# Altium footprint library Connectors.PcbLib: 5 footprints
Each footprint in its own frame and in the unit in brackets; x right, y up, seen from the top. Pads: shape width x height; smd on the part's side, far side on the other; paste and mask are expansions set on the pad; w line width, h text height; cw(c..) or ccw(c..) is an arc to the next point about the centre after c.
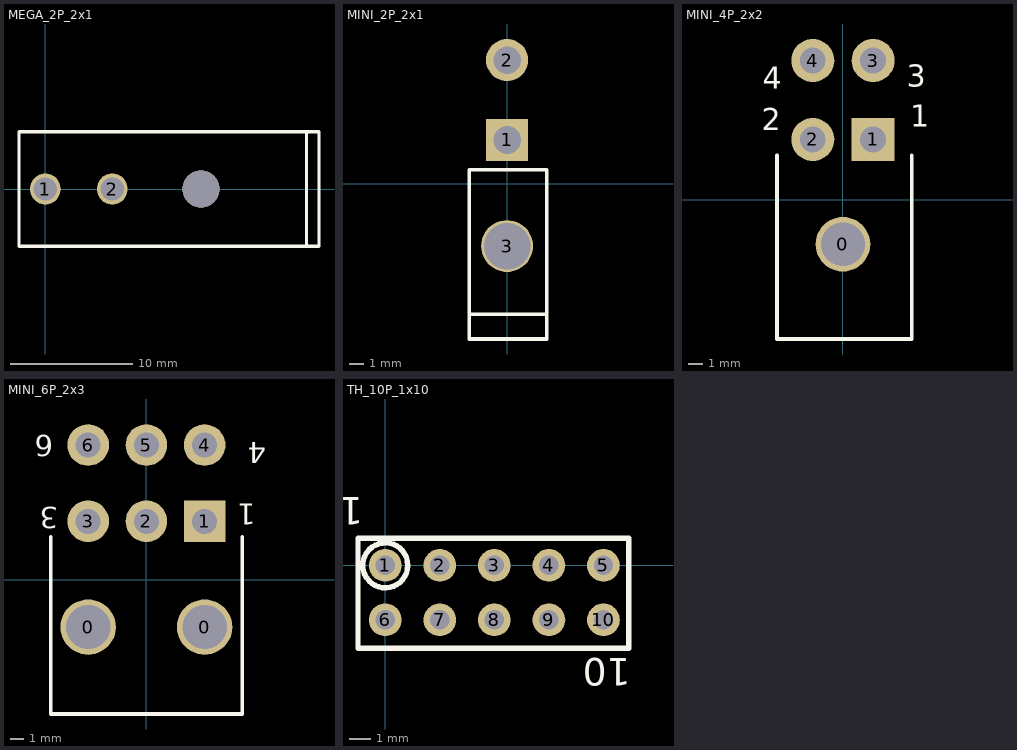
[diagram p0: the footprints below, top view; thin cyan lines are the x and y axes]

## MEGA_2P_2x1 [mm]
pads (2):
  round 2.54 hole 1.905: 1(0,0) 2(5.5,0)
via 12.8,0 diameter 3.05 hole 3.05
Top Overlay:
  lines w0.254: -2.159,-0.029 -2.159,-4.699 6.541,-4.699 ; -2.159,0 -2.159,4.67 ; -2.159,4.699 6.541,4.699 ; 6.477,-4.699 15.177,-4.699 ; 6.477,4.699 15.177,4.699 ; 12.7,-4.699 21.4,-4.699 ; 12.7,4.699 21.4,4.699 ; 21.463,-4.699 22.479,-4.699 22.479,4.699 21.463,4.699 ; 21.463,-4.67 21.463,0 21.463,4.67
3D body "768250002.stp": height 14.06, standoff -4.07, extent -0.635,-4.158 21.327,4.191

## MINI_2P_2x1 [mm]
pads (3):
  rect 2.9x2.9 hole 1.9: 1(0,3)
  round 2.9 hole 1.9: 2(0,8.5)
  round 3.578 hole 3.2: 3(0,-4.3)
Top Overlay:
  lines w0.254: -2.6,-9 2.625,-9 ; -2.6,0.95 -2.6,-10.7 2.7,-10.7 ; -2.575,0.95 2.725,0.95 2.725,-10.7
3D body "039300020.stp": height 11.4, standoff -3.6, extent -2.7,-10.9 3.1,9.035

## MINI_4P_2x2 [mm]
pads (5):
  round 3.81 hole 3.048: 0(0,-3.099)
  rect 3x3 hole 1.8: 1(2.1,4.2)
  round 3 hole 1.8: 2(-2.1,4.2) 3(2.1,9.7) 4(-2.1,9.7)
Top Overlay:
  lines w0.254: -4.6,3.1 -4.6,-3.1 -4.6,-9.7 4.8,-9.7 4.8,-3.1 4.8,3.1
  text "2" at -5.652,4.826 h1.52
  text "3" at 4.436,7.874 h1.52
  text "4" at -5.598,7.747 h1.52
  text "1" at 4.69,5.08 h1.52
3D body "039300040.stp": height 11.4, standoff -3.6, extent -4.8,-9.567 5.2,10.368

## MINI_6P_2x3 [mm]
pads (8):
  round 4 hole 3.2: 0(-4.2,-3.429) 0(4.2,-3.429)
  rect 3x3 hole 1.8: 1(4.2,4.2)
  round 3 hole 1.8: 2(0,4.2) 3(-4.2,4.2) 4(4.2,9.7) 5(0,9.7) 6(-4.2,9.7)
Top Overlay:
  lines w0.254: -6.9,3.1 -6.9,-3.1 -6.9,-9.7 6.9,-9.7 6.9,-3.1 6.9,3.1
  text "3" at -6.35,5.207 h1.52
  text "4" at 8.636,9.906 h1.52
  text "6" at -6.731,10.414 h1.52
  text "1" at 7.874,5.461 h1.52
3D body "039300060.stp": height 11.4, standoff -3.6, extent -6.9,-9.7 7.3,10.235

## TH_10P_1x10 [mil]
pads (10):
  round 60 hole 35.43: 1(0,0) 2(100,0) 3(200,0) 4(300,0) 5(400,0) 6(0,-100) 7(100,-100) 8(200,-100) 9(300,-100) 10(400,-100)
Top Overlay:
  circle w10: c0,0 r41.23
  lines w10: -50,-50 -50,50 446.06,50 ; -50,-48.43 -50,-152.36 0,-152.36 446.06,-152.36 446.06,-48.43 ; 446.06,-53.94 446.06,48.43
  text "1" at -40,124.91 h50
  text "10" at 450,-170 h50
3D body: height 10, standoff 0, extent -75,-157.48 452.76,53.72